# Altium schematic symbol library Virtex.SchLib: 67 symbols (part 1 of 2)
Pins are listed as number, name and electrical type; pins without a type are passive.

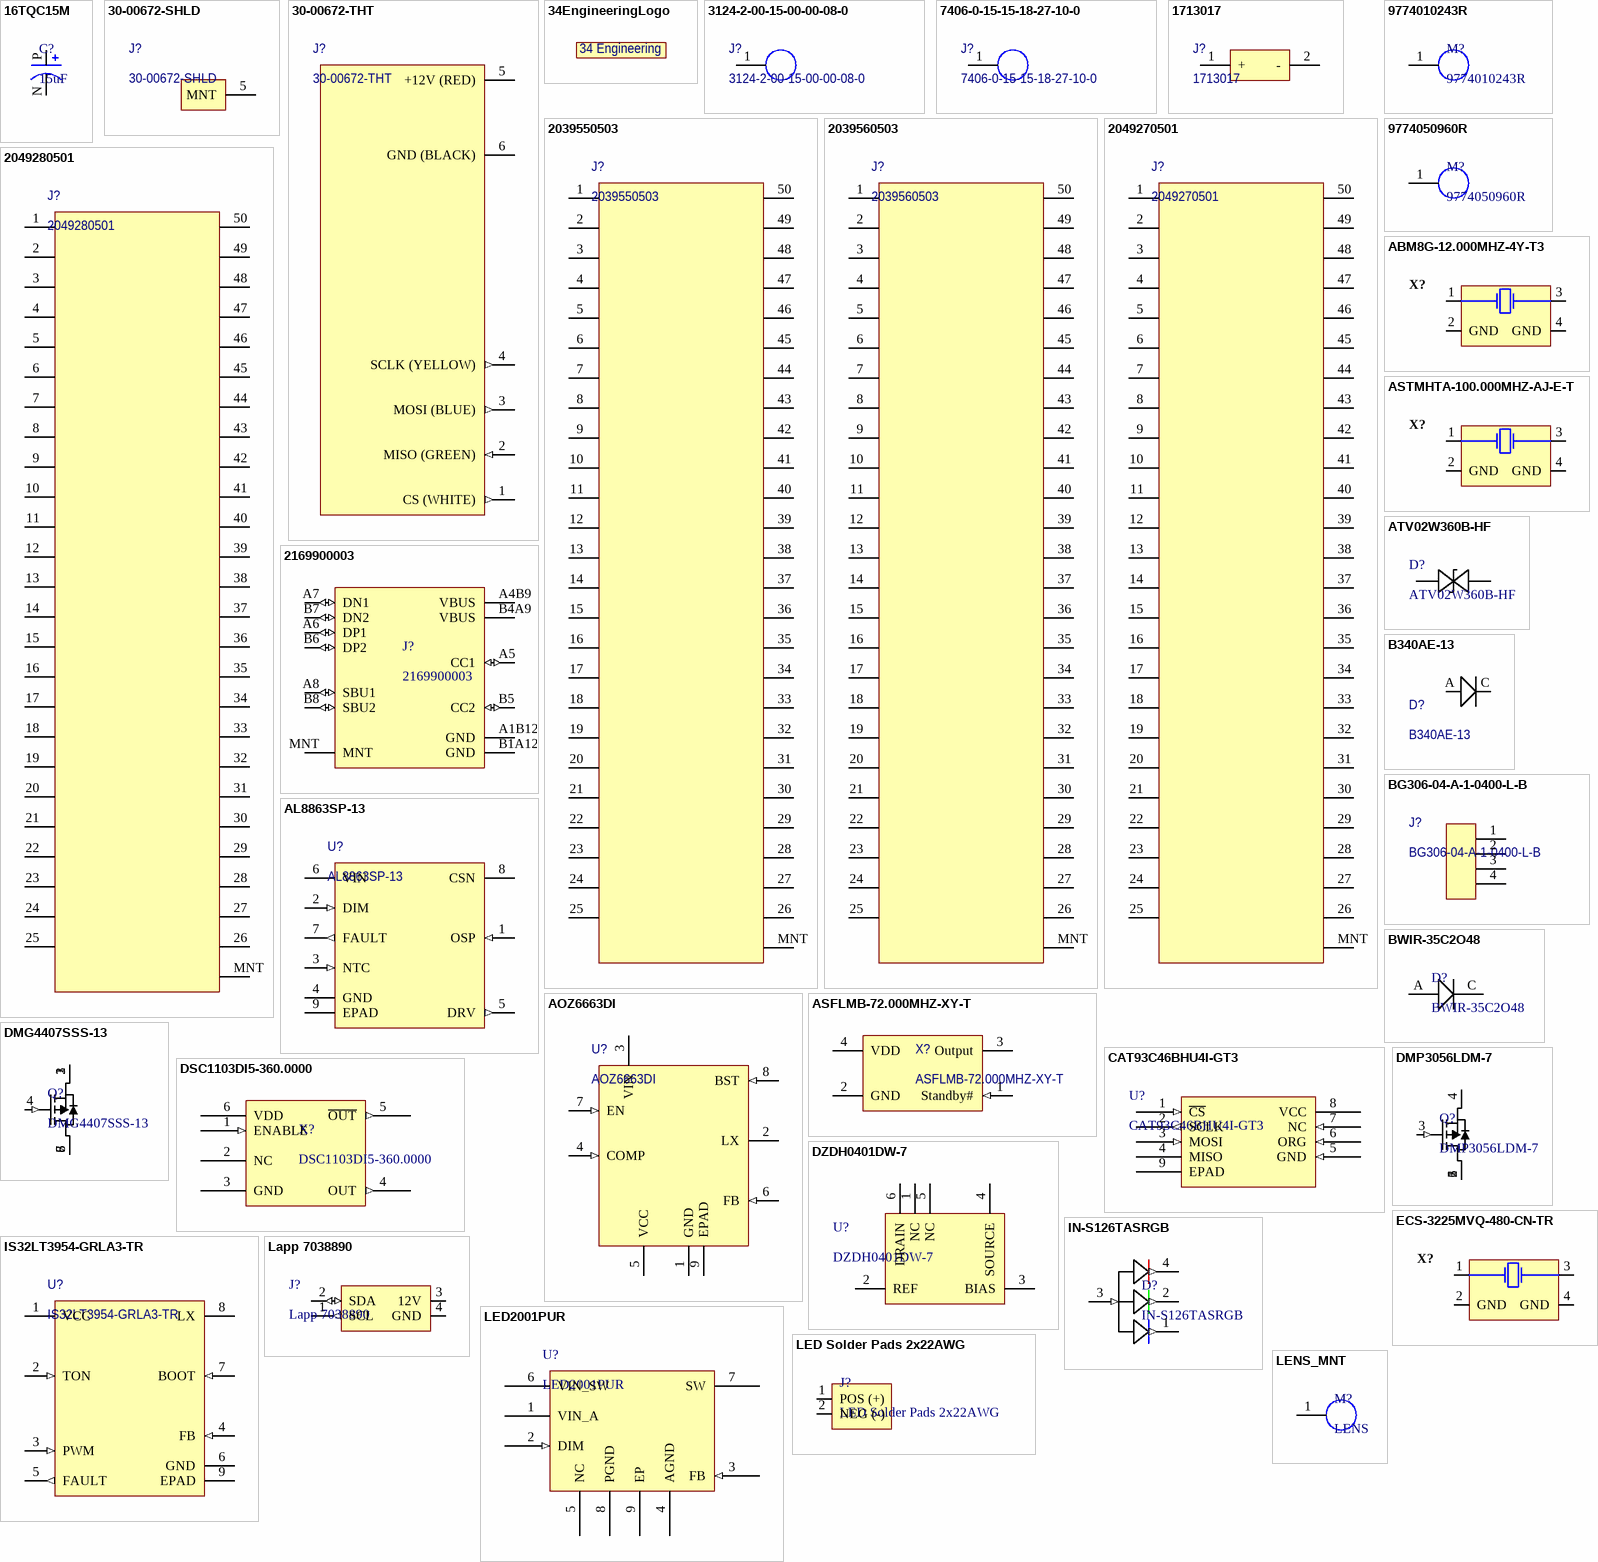
[diagram p0: symbols 16TQC15M to LENS_MNT]

## 16TQC15M
designator C?, comment 15uF
Polymer capacitor 15 uF 16 VDC, 16TQC15M, Panasonic Automotive & Industrial Systems; Tolerance: 20%; Voltage Rating: 16V; ESR (Equivalent Series Resistance): 90mR; Ripple Current: 1A; Leakage Current: 72uA; Polarity: Polar; Life (Hours): 2000Hour; Dissipation Factor: 10%; Supplier 1: Digi-Key; RoHS: Yes; Stock 1: 1294; Pricing 1: 1=2.02000, 10=1.59300, 50=1.38060, 100=1.19470, 500=0.90264, 1000=0.79646 (USD); Mount: Surface Mount; Case/Package: 1411; Number of Pins: 2; Case Code (Metric): 3528; Case Code (Imperial): 1411; Min Operating Temperature: -55°C; Max Operating Temperature: 105°C; Capacitance: 15uF; Package Quantity: 2000; Packaging: Tape and Reel; Voltage Rating (DC): 16V; Termination: SMD/SMT; Voltage: 16V; Features: General Purpose; Length: 3.5mm; Width: 0.11inch; Height: 1.9mm; Height - Seated (Max): 0.079inch; Depth: 2.8mm; Radiation Hardening: No; REACH SVHC: No SVHC; Lead Free: Lead Free; RoHS Compliant: Yes; ComponentLink1URL: https://datasheet.ciiva.com/25784/1734368-25784922.pdf?src-supplier=Farnell; ComponentLink1Description: https://datasheet.ciiva.com/25784/1734368-25784922.pdf?src-supplier=Farnell; ComponentLink2URL: https://datasheet.ciiva.com/48675/aaa8000ce14-48675000.pdf?src-supplier=Avnet; ComponentLink2Description: https://datasheet.ciiva.com/48675/aaa8000ce14-48675000.pdf?src-supplier=Avnet; ComponentLink3URL: https://datasheet.ciiva.com/48543/tqc-series-eng-tds-48543116.pdf?src-supplier=Distrelec; ComponentLink3Description: https://datasheet.ciiva.com/48543/tqc-series-eng-tds-48543116.pdf?src-supplier=Distrelec; Manufacturer Part Number: 16TQC15M; Manufacturer: Panasonic; Supplier Part Number 1: P16485CT-ND; Category: Tantalum Capacitors
footprint 16TQC15M
pins: N, P

## 30-00672-SHLD
designator J?
Multi-Conductor Cable Braid Thermoplastic Elastomer 6Conductors 28AWG 4.9mm 300V Black; Manufacturer: Tensility; Conductor Material: Copper; Number of Conductors: 6; Supplier 1: Digi-Key; Manufacturer Part Number: 30-00672; RoHS: No; Stock 1: 6; Pricing 1: 1=23.49000, 5=19.22200, 10=14.95100 (USD); Color: Black; Insulation Material: Polyurethane; Min Operating Temperature: -40°C; Max Operating Temperature: 80°C; Voltage: 300V; Wire/Cable Type: Multi-Conductor; Wire/Cable Gauge: 28AWG; ComponentLink1URL: http://www.tensility.com/pdffiles/30-00672.pdf?src-supplier=Digi-Key; ComponentLink1Description: http://www.tensility.com/pdffiles/30-00672.pdf?src-supplier=Digi-Key; Supplier Part Number 1: T1388-5-ND
footprint 30-00672-SHLD
pins: 5 MNT (power)

## 30-00672-THT
designator J?
Multi-Conductor Cable Braid Thermoplastic Elastomer 6Conductors 28AWG 4.9mm 300V Black; Manufacturer: Tensility; Conductor Material: Copper; Number of Conductors: 6; Supplier 1: Digi-Key; Manufacturer Part Number: 30-00672; RoHS: No; Stock 1: 6; Pricing 1: 1=23.49000, 5=19.22200, 10=14.95100 (USD); Color: Black; Insulation Material: Polyurethane; Min Operating Temperature: -40°C; Max Operating Temperature: 80°C; Voltage: 300V; Wire/Cable Type: Multi-Conductor; Wire/Cable Gauge: 28AWG; ComponentLink1URL: http://www.tensility.com/pdffiles/30-00672.pdf?src-supplier=Digi-Key; ComponentLink1Description: http://www.tensility.com/pdffiles/30-00672.pdf?src-supplier=Digi-Key; Supplier Part Number 1: T1388-5-ND
footprint 30-00672-THT
pins: 1 CS (WHITE) (out), 2 MISO (GREEN) (in), 3 MOSI (BLUE) (out), 4 SCLK (YELLOW) (out), 5 +12V (RED) (power), 6 GND (BLACK) (power)

## 34EngineeringLogo
designator S?
34 Engineering Silkscreen Logo
footprint 34EngineeringLogo
text: 34 Engineering

## 3124-2-00-15-00-00-08-0
designator J?
Circuit Board Hardware - PCB 10u AU OVER NI; Manufacturer: Mill-Max; Plating: Gold; Gender: Male; Insulation: Non-Insulated; Outside Diameter: 1.78mm; Flange Diameter: 0.07inch; Mounting Hole Diameter: 1.09mm; Board Thickness: 0.062inch; Hole Diameter: 0.043inch; Supplier 1: Arrow Electronics; Manufacturer Part Number: 3124-2-00-15-00-00-08-0; RoHS: Yes; Category: Connectors; Stock 1: 997; Pricing 1: 1=0.61030, 10=0.48810 (USD); Mount: Through Hole; Contact Material: Brass; Material: Brass; Contact Plating: Gold; Package Quantity: 500; Packaging: Bulk; Termination: PC Pin; Series: 3124; Length: 0.982inch; Lead Free: Contains Lead; RoHS Compliant: Yes; ComponentLink1URL: https://datasheet.ciiva.com/14895/679datasheet-cfmwebpartnumber3124bodylength2stagecode00shellplating1-14895464.pdf?src-supplier=Arrow+Electronics; ComponentLink1Description: https://datasheet.ciiva.com/14895/679datasheet-cfmwebpartnumber3124bodylength2stagecode00shellplating1-14895464.pdf?src-supplier=Arrow+Electronics; ComponentLink2URL: https://datasheet.ciiva.com/16306/3124-2-00-15-00-00-08-0-16306958.pdf?src-supplier=Future+Electronics; ComponentLink2Description: https://datasheet.ciiva.com/16306/3124-2-00-15-00-00-08-0-16306958.pdf?src-supplier=Future+Electronics; Supplier Part Number 1: 3124-2-00-15-00-00-08-0
footprint 3124-2-00-15-00-00-08-0 (Footprint not found)
pins: 1

## 7406-0-15-15-18-27-10-0
designator J?
3.05 mm PCB Through Hole Pin Receptacle for (0.94 to 1.09 mm Pin) w/ No Tail; Manufacturer: Mill-Max; Plating: Gold; Current Rating: 8A; Outside Diameter: 2.31mm; Hole Diameter: 1.8mm; Supplier 1: Arrow Electronics; Manufacturer Part Number: 7406-0-15-15-18-27-10-0; RoHS: Yes; Category: Terminals; Stock 1: 1000; Pricing 1: 1=0.49460, 10=0.42540 (USD); Mount: Through Hole; Material: BERYLLIUM COPPER ALLOY; Package Quantity: 500; Packaging: Bulk; Termination: Solder; Length: 0.12inch; Lead Free: Contains Lead; RoHS Compliant: Yes; ComponentLink1URL: https://datasheet.ciiva.com/12487/7406-0-15-15-18-27-10-0-72490-12487100.pdf?src-supplier=Mouser; ComponentLink1Description: https://datasheet.ciiva.com/12487/7406-0-15-15-18-27-10-0-72490-12487100.pdf?src-supplier=Mouser; Supplier Part Number 1: 7406-0-15-15-18-27-10-0
footprint 7406-0-15-15-18-27-10-0 (Footprint not found)
pins: 1

## 1713017
designator J?
PCB Terminal Push-In 3.5mm 16AWG 250V 8A 2 Position Combicon Compact Series; Manufacturer: Phoenix Contact; Number of Levels: 1; Number of Positions Per Level: 2; Current: 2A; Voltage: 300V; Wire Gauge (Max): 24AWG; Pitch: 0.138inch; Supplier 1: Arrow Electronics; Manufacturer Part Number: 1713017; RoHS: Yes; Category: Terminal Blocks; Stock 1: 1500; Pricing 1: 1=0.37150, 10=0.35410, 25=0.34670, 50=0.33270, 100=0.32070, 250=0.29670, 500=0.28610, 1000=0.28220 (USD); Mount: Through Hole; Weight: 0.038801oz; Color: Multiple; Package Quantity: 1; Packaging: Bulk; Current Rating: 8A; Voltage Rating: 250V; Termination: Screwless; Number of Positions: 2; Series: COMBICON PTSA; Length: 12mm; Height: 13.1mm; Wire Gauge (Min): 16AWG; Lead Free: Lead Free; RoHS Compliant: Yes; ComponentLink1URL: https://datasheet.ciiva.com/18620/1713017-18620870.pdf?src-supplier=Digi-Key; ComponentLink1Description: https://datasheet.ciiva.com/18620/1713017-18620870.pdf?src-supplier=Digi-Key; Supplier Part Number 1: 1713017
footprint 1713017 (Footprint not found)
pins: 1 + (power), 2 - (power)

## 2039550503
designator J?
SlimStack Board-to-Board Receptacle, 0.40mm Pitch, FSB5 Floating Series, 5.00mm Mated Height, 3.80mm Mated Width, 50 Circuits; Manufacturer: Molex; Manufacturer Part Number: 203955-0503; Supplier 1: Mouser; RoHS: No; Stock 1: 5216; Pricing 1: 1=2.91000, 10=2.57000, 50=2.69000, 100=2.04000, 1000=1.78000, 2200=1.72000, 8800=1.68000, 10000=1.58000 (USD); Supplier Part Number 1: 538-203956-0503
footprint 2039550503
pins: 1, 2, 3, 4, 5, 6, 7, 8, 9, 10, 11, 12, 13, 14, 15, 16, 17, 18, 19, 20, 21, 22, 23, 24, 25, 26, 27, 28, 29, 30, 31, 32, 33, 34, 35, 36, 37, 38, 39, 40, 41, 42, 43, 44, 45, 46, 47, 48, 49, 50, MNT

## 2039560503
designator J?
SlimStack Board-to-Board Plug, 0.40mm Pitch, FSB5 Floating Series, 5.00mm Mated Height, 3.80 Mated Width, 50 Circuits; Manufacturer: Molex; Manufacturer Part Number: 203956-0503; Supplier 1: Mouser; RoHS: No; Stock 1: 5216; Pricing 1: 1=2.91000, 10=2.57000, 50=2.69000, 100=2.04000, 1000=1.78000, 2200=1.72000, 8800=1.68000, 10000=1.58000 (USD); Supplier Part Number 1: 538-203956-0503
footprint 2039560503
pins: 1, 2, 3, 4, 5, 6, 7, 8, 9, 10, 11, 12, 13, 14, 15, 16, 17, 18, 19, 20, 21, 22, 23, 24, 25, 26, 27, 28, 29, 30, 31, 32, 33, 34, 35, 36, 37, 38, 39, 40, 41, 42, 43, 44, 45, 46, 47, 48, 49, 50, MNT

## 2049270501
designator J?
SlimStack Board-to-Board Receptacle, 0.40mm Pitch, FSB3 Floating Series, 3.00mm Mated Height, 3.20mm Mated Width, 50...; Manufacturer: Molex; Manufacturer Part Number: 203955-0503; RoHS: No; Stock 1: 8587; Pricing 1: 1=3.72000, 10=3.28000, 50=3.28000, 100=2.61000, 1000=2.16000, 10000=2.01000 (USD); Supplier 1: Mouser; Supplier Part Number 1: 538-204927-0501
footprint 2049270501
pins: 1, 2, 3, 4, 5, 6, 7, 8, 9, 10, 11, 12, 13, 14, 15, 16, 17, 18, 19, 20, 21, 22, 23, 24, 25, 26, 27, 28, 29, 30, 31, 32, 33, 34, 35, 36, 37, 38, 39, 40, 41, 42, 43, 44, 45, 46, 47, 48, 49, 50, MNT

## 2049280501
designator J?
SlimStack Board-to-Board Plug, 0.40mm Pitch, FSB3 Floating Series, 3.00mm Mated Height, 3.20 Mated Width, 50 Circuits; Manufacturer: Molex; Manufacturer Part Number: 203955-0503; RoHS: No; Stock 1: 8554; Pricing 1: 1=4.46000, 10=3.93000, 50=3.93000, 100=3.13000, 500=3.04000, 1000=2.59000, 3000=2.41000, 6000=2.32000, 9000=2.23000, 10000=2.41000 (USD); Supplier 1: Mouser; Supplier Part Number 1: 538-204928-0501
footprint 2049280501
pins: 1, 2, 3, 4, 5, 6, 7, 8, 9, 10, 11, 12, 13, 14, 15, 16, 17, 18, 19, 20, 21, 22, 23, 24, 25, 26, 27, 28, 29, 30, 31, 32, 33, 34, 35, 36, 37, 38, 39, 40, 41, 42, 43, 44, 45, 46, 47, 48, 49, 50, MNT

## 2169900003
designator J?
USB-C (USB TYPE-C) USB 2.0 Receptacle Connector 24 (16+8 Dummy) Position Surface Mount, Right Angle; Through Hole; MF: Molex; Purchase-URL: https://pricing.snapeda.com/search/part/2169900003/?ref=eda; Price: None; SnapEDA_Link: https://www.snapeda.com/parts/2169900003/Molex/view-part/?ref=snap; Check_prices: https://www.snapeda.com/parts/2169900003/Molex/view-part/?ref=eda; Package: None; Availability: In Stock; Value: *; MP: 2169900003; Supplier 1: Digi-Key; Manufacturer: Molex; Manufacturer Part Number: 2169900003; RoHS: No; Stock 1: 5473; Pricing 1: 1=0.85000, 10=0.70500, 100=0.58720 (USD); Supplier Part Number 1: 900-2169900003CT-ND
footprint 2169900003
pins: A1B12 GND (power), A4B9 VBUS (power), A5 CC1 (io), A6 DP1 (io), A7 DN1 (io), A8 SBU1 (io), B1A12 GND (power), B4A9 VBUS (power), B5 CC2 (io), B6 DP2 (io), B7 DN2 (io), B8 SBU2 (io), MNT

## 9774010243R
designator M?
Spacer Material: Steel, Tin-Plated Mounting: SMT Series: WA-SMST Thread D: M2; Manufacturer: Wurth Electronics; Manufacturer Part Number: 9774070960R; Plating: Tin; Threaded/Unthreaded: Unthreaded; Inside Diameter: 0.13inch; Outside Diameter: 0.236inch; RoHS: Yes; Category: Spacers, Standoffs; Stock 1: 946; Pricing 1: 1=1.24000, 10=1.18000, 25=1.11000, 50=1.05000, 100=0.95600 (USD); Material: Steel; Length: 0.33inch; REACH SVHC: Unknown; ComponentLink1URL: http://www.mouser.com/ds/2/445/9774070960R-611130.pdf?src-supplier=Mouser; ComponentLink1Description: http://www.mouser.com/ds/2/445/9774070960R-611130.pdf?src-supplier=Mouser; ComponentLink2URL: http://www.farnell.com/datasheets/1960400.pdf?src-supplier=Farnell; ComponentLink2Description: http://www.farnell.com/datasheets/1960400.pdf?src-supplier=Farnell; ComponentLink3URL: https://media.digikey.com/pdf/Data%20Sheets/Wurth%20Electronics%20PDFs/WA-SMSx_Performance_Flyer.pdf?src-supplier=Digi-Key; ComponentLink3Description: https://media.digikey.com/pdf/Data%20Sheets/Wurth%20Electronics%20PDFs/WA-SMSx_Performance_Flyer.pdf?src-supplier=Digi-Key; ComponentLink4URL: http://www.farnell.com/datasheets/1960400.pdf?src-supplier=Newark; ComponentLink4Description: http://www.farnell.com/datasheets/1960400.pdf?src-supplier=Newark; ComponentLink5URL: http://www.farnell.com/datasheets/1960400.pdf?src-supplier=Element14; ComponentLink5Description: http://www.farnell.com/datasheets/1960400.pdf?src-supplier=Element14; Stock 2: 1; Pricing 2: 650=0.83200, 1300=0.79000 (USD); ComponentLink6URL: http://www.mouser.com/ds/2/445/9774110960R-611133.pdf?src-supplier=Mouser; ComponentLink6Description: http://www.mouser.com/ds/2/445/9774110960R-611133.pdf?src-supplier=Mouser; ComponentLink7URL: http://www.farnell.com/datasheets/1960407.pdf?src-supplier=Farnell; ComponentLink7Description: http://www.farnell.com/datasheets/1960407.pdf?src-supplier=Farnell; ComponentLink8URL: http://www.farnell.com/datasheets/1960407.pdf?src-supplier=Element14; ComponentLink8Description: http://www.farnell.com/datasheets/1960407.pdf?src-supplier=Element14; ComponentLink9URL: http://www.farnell.com/datasheets/1960396.pdf?src-supplier=Farnell; ComponentLink9Description: http://www.farnell.com/datasheets/1960396.pdf?src-supplier=Farnell; ComponentLink10URL: http://www.mouser.com/ds/2/445/9774050960R-611117.pdf?src-supplier=Mouser; ComponentLink10Description: http://www.mouser.com/ds/2/445/9774050960R-611117.pdf?src-supplier=Mouser; ComponentLink11URL: http://www.farnell.com/datasheets/1960396.pdf?src-supplier=Element14; ComponentLink11Description: http://www.farnell.com/datasheets/1960396.pdf?src-supplier=Element14; ComponentLink12URL: http://www.farnell.com/datasheets/1960396.pdf?src-supplier=Newark; ComponentLink12Description: http://www.farnell.com/datasheets/1960396.pdf?src-supplier=Newark; Supplier 1: Newark; ComponentLink13URL: http://www.farnell.com/datasheets/1960359.pdf?src-supplier=Farnell; ComponentLink13Description: http://www.farnell.com/datasheets/1960359.pdf?src-supplier=Farnell; ComponentLink14URL: http://www.mouser.com/ds/2/445/9774010243R-611450.pdf?src-supplier=Mouser; ComponentLink14Description: http://www.mouser.com/ds/2/445/9774010243R-611450.pdf?src-supplier=Mouser; ComponentLink15URL: http://www.farnell.com/datasheets/1960359.pdf?src-supplier=Element14; ComponentLink15Description: http://www.farnell.com/datasheets/1960359.pdf?src-supplier=Element14; ComponentLink16URL: http://www.farnell.com/datasheets/1960359.pdf?src-supplier=Newark; ComponentLink16Description: http://www.farnell.com/datasheets/1960359.pdf?src-supplier=Newark; Supplier Part Number 1: 59Y8415
footprint 9774010243R
pins: 1

## 9774050960R
designator M?
Spacer Material: Steel Mounting: SMT Series: WA-SMST For ø: 3.3 mm; Manufacturer: Wurth Electronics; Manufacturer Part Number: 9774070960R; Plating: Tin; Threaded/Unthreaded: Unthreaded; Inside Diameter: 0.13inch; Outside Diameter: 0.236inch; RoHS: Yes; Category: Spacers, Standoffs; Stock 1: 8947; Pricing 1: 1=1.73000, 10=1.65800, 50=1.45600, 100=1.35500 (USD); Material: Steel; Length: 0.33inch; REACH SVHC: Unknown; ComponentLink1URL: http://www.mouser.com/ds/2/445/9774070960R-611130.pdf?src-supplier=Mouser; ComponentLink1Description: http://www.mouser.com/ds/2/445/9774070960R-611130.pdf?src-supplier=Mouser; ComponentLink2URL: http://www.farnell.com/datasheets/1960400.pdf?src-supplier=Farnell; ComponentLink2Description: http://www.farnell.com/datasheets/1960400.pdf?src-supplier=Farnell; ComponentLink3URL: https://media.digikey.com/pdf/Data%20Sheets/Wurth%20Electronics%20PDFs/WA-SMSx_Performance_Flyer.pdf?src-supplier=Digi-Key; ComponentLink3Description: https://media.digikey.com/pdf/Data%20Sheets/Wurth%20Electronics%20PDFs/WA-SMSx_Performance_Flyer.pdf?src-supplier=Digi-Key; ComponentLink4URL: http://www.farnell.com/datasheets/1960400.pdf?src-supplier=Newark; ComponentLink4Description: http://www.farnell.com/datasheets/1960400.pdf?src-supplier=Newark; ComponentLink5URL: http://www.farnell.com/datasheets/1960400.pdf?src-supplier=Element14; ComponentLink5Description: http://www.farnell.com/datasheets/1960400.pdf?src-supplier=Element14; Stock 2: 1; Pricing 2: 650=0.83200, 1300=0.79000 (USD); ComponentLink6URL: http://www.mouser.com/ds/2/445/9774110960R-611133.pdf?src-supplier=Mouser; ComponentLink6Description: http://www.mouser.com/ds/2/445/9774110960R-611133.pdf?src-supplier=Mouser; ComponentLink7URL: http://www.farnell.com/datasheets/1960407.pdf?src-supplier=Farnell; ComponentLink7Description: http://www.farnell.com/datasheets/1960407.pdf?src-supplier=Farnell; ComponentLink8URL: http://www.farnell.com/datasheets/1960407.pdf?src-supplier=Element14; ComponentLink8Description: http://www.farnell.com/datasheets/1960407.pdf?src-supplier=Element14; Supplier 1: Digi-Key; Supplier 2: RSComponents; ComponentLink9URL: http://www.farnell.com/datasheets/1960396.pdf?src-supplier=Farnell; ComponentLink9Description: http://www.farnell.com/datasheets/1960396.pdf?src-supplier=Farnell; ComponentLink10URL: http://www.mouser.com/ds/2/445/9774050960R-611117.pdf?src-supplier=Mouser; ComponentLink10Description: http://www.mouser.com/ds/2/445/9774050960R-611117.pdf?src-supplier=Mouser; ComponentLink11URL: http://www.farnell.com/datasheets/1960396.pdf?src-supplier=Element14; ComponentLink11Description: http://www.farnell.com/datasheets/1960396.pdf?src-supplier=Element14; ComponentLink12URL: http://www.farnell.com/datasheets/1960396.pdf?src-supplier=Newark; ComponentLink12Description: http://www.farnell.com/datasheets/1960396.pdf?src-supplier=Newark; Supplier Part Number 2: 1768017
footprint 9774050960R
pins: 1

## ABM8G-12.000MHZ-4Y-T3
designator X?  (value not drawn)
ABRACON - ABM8G-12.000MHZ-4Y-T3 - CRYSTAL, 12MHZ, 10PF, 3.2 X 2.5MM; ESR (Equivalent Series Resistance): 120R; Frequency Tolerance: 30ppm; Supplier 1: Digi-Key; RoHS: Yes; Stock 1: 11481; Pricing 1: 1=0.67000, 10=0.59600, 50=0.55720, 100=0.49250, 500=0.46656, 1000=0.38880 (USD); Mount: Surface Mount; Case/Package: CSMD; Number of Pins: 4; Min Operating Temperature: -10°C; Max Operating Temperature: 60°C; Frequency: 12MHz; Load Capacitance: 10pF; Packaging: Tape and Reel; Frequency Stability: 30ppm; Series: ABM8G; Series Resistance: 120R; Operating Frequency: 12 MHz; Length: 3.2mm; Width: 0.098inch; Height: 0.039inch; Depth: 2.5mm; REACH SVHC: No SVHC; Lead Free: Lead Free; ComponentLink1URL: https://datasheet.ciiva.com/15116/getdatasheetpartid-719872-15116768.pdf?src-supplier=Verical; ComponentLink1Description: https://datasheet.ciiva.com/15116/getdatasheetpartid-719872-15116768.pdf?src-supplier=Verical; ComponentLink2URL: https://datasheet.ciiva.com/857/abm8g-857959.pdf?src-supplier=Digi-Key; ComponentLink2Description: https://datasheet.ciiva.com/857/abm8g-857959.pdf?src-supplier=Digi-Key; ComponentLink3URL: https://datasheet.ciiva.com/857/abm8g-857960.pdf?src-supplier=Digi-Key; ComponentLink3Description: https://datasheet.ciiva.com/857/abm8g-857960.pdf?src-supplier=Digi-Key; ComponentLink4URL: https://datasheet.ciiva.com/857/abm8g-857961.pdf?src-supplier=Digi-Key; ComponentLink4Description: https://datasheet.ciiva.com/857/abm8g-857961.pdf?src-supplier=Digi-Key; ComponentLink5URL: https://datasheet.ciiva.com/16216/abm8g-16216655.pdf?src-supplier=Future+Electronics; ComponentLink5Description: https://datasheet.ciiva.com/16216/abm8g-16216655.pdf?src-supplier=Future+Electronics; Manufacturer Part Number: ABM8G-12.000MHZ-4Y-T3; Manufacturer: Abracon; Supplier Part Number 1: 535-10901-1-ND; Category: Crystals
footprint ABM8G-12.000MHZ-4Y-T3
pins: 1, 2 GND (power), 3, 4 GND (power)

## AL8863SP-13
designator U?
AL8863 Series 60 V 1 MHz Buck LED Controller with Fault Flag - SOIC-8EP; Manufacturer: Diodes; Supplier 1: Newark; Manufacturer Part Number: AL8863SP-13; RoHS: Yes; Category: LED Drivers; Stock 1: 2167; Pricing 1: 1=0.84000, 10=0.74100, 25=0.69400, 50=0.63100, 100=0.56700, 250=0.52600, 500=0.44800, 1000=0.35800 (USD); Supplier Part Number 1: 81AH8733
footprint AL8863SP-13 (Footprint not found)
pins: 1 OSP (in), 2 DIM (in), 3 NTC (in), 4 GND (power), 5 DRV (out), 6 VIN (power), 7 FAULT (out), 8 CSN (power), 9 EPAD (power)

## AOZ6663DI
designator U?
3A EZBuck with Internal Soft-Start / External Compensation, DFN3x3B-8L, RoHS; Manufacturer: Alpha & Omega Semiconductor; Supplier 1: Digi-Key; Manufacturer Part Number: AOZ6663DI; RoHS: Yes; Category: Voltage Regulators - Switching; Stock 1: 227772; Pricing 1: 1=0.61000, 10=0.52500, 25=0.48960, 100=0.39180, 250=0.36380, 500=0.30782, 1000=0.23786, 2500=0.21688 (USD); RoHS Compliant: Yes; Supplier Part Number 1: 785-1855-1-ND
footprint AOZ6663DI
pins: 1 GND (power), 2 LX (power), 3 VIN (power), 4 COMP (in), 5 VCC (power), 6 FB (in), 7 EN (in), 8 BST (in), 9 EPAD (power)

## ASFLMB-72.000MHZ-XY-T
designator X?
Silicon Oscillator 72MHz 15pF ±10ppm 4-Pin QFN T/R; Manufacturer: Abracon; Operating Supply Voltage: 3.6V; Max Supply Current: 16mA; Supplier 1: Mouser; Manufacturer Part Number: ASFLMB-72.000MHZ-XY-T; RoHS: Yes; Category: Oscillators; Stock 1: 318; Pricing 1: 1=3.61000, 10=3.45000, 50=3.27000, 100=2.93000, 500=2.76000, 1000=2.40000, 10000=2.40000 (USD); Mount: Surface Mount; Case/Package: SMD/SMT; Number of Pins: 4; Min Operating Temperature: -40°C; Max Operating Temperature: 105°C; Frequency: 72MHz; Load Capacitance: 15pF; Packaging: Tape and Reel; Frequency Stability: 10ppm; Termination: SMD/SMT; Series: Pure Silicon™ ASFLMB; Length: 0.197inch; Width: 0.126inch; Height: 0.035inch; Radiation Hardening: No; ComponentLink1URL: https://datasheet.ciiva.com/870/memspeedproflyerii-870042.pdf?src-supplier=Digi-Key; ComponentLink1Description: https://datasheet.ciiva.com/870/memspeedproflyerii-870042.pdf?src-supplier=Digi-Key; ComponentLink2URL: https://datasheet.ciiva.com/870/memspeedproflyerii-870043.pdf?src-supplier=Digi-Key; ComponentLink2Description: https://datasheet.ciiva.com/870/memspeedproflyerii-870043.pdf?src-supplier=Digi-Key; ComponentLink3URL: https://datasheet.ciiva.com/870/memspeedproflyerii-870044.pdf?src-supplier=Digi-Key; ComponentLink3Description: https://datasheet.ciiva.com/870/memspeedproflyerii-870044.pdf?src-supplier=Digi-Key; ComponentLink4URL: https://datasheet.ciiva.com/3178/asflmb-3178058.pdf?src-supplier=Avnet; ComponentLink4Description: https://datasheet.ciiva.com/3178/asflmb-3178058.pdf?src-supplier=Avnet; ComponentLink5URL: https://datasheet.ciiva.com/13163/asflmb-24525-13163049.pdf?src-supplier=Mouser; ComponentLink5Description: https://datasheet.ciiva.com/13163/asflmb-24525-13163049.pdf?src-supplier=Mouser; Supplier Part Number 1: 815-ASFLMB-72-XY-T
footprint ASFLMB-72.000MHZ-XY-T
pins: 1 Standby# (in), 2 GND (power), 3 Output (power), 4 VDD (power)

## ASTMHTA-100.000MHZ-AJ-E-T
designator X?, comment ASDMB-100.000MHZ-XY-T  (value not drawn)
MEMS OSC XO 100.0000MHZ LVCMOS; Manufacturer Part Number: ASTMHTA-100.000MHZ-AJ-E-T; Manufacturer: Abracon; Frequency: 100MHz; Load Capacitance: 15pF; Operating Supply Voltage: 3.6V; Frequency Stability: 10ppm; Max Supply Current: 16mA; RoHS: Yes; Stock 1: 2824; Pricing 1: 1=3.08000, 10=2.93800, 50=2.79080, 100=2.49700, 500=2.35008 (USD); Mount: Surface Mount; Case/Package: SMD/SMT; Number of Pins: 4; Min Operating Temperature: -40°C; Max Operating Temperature: 105°C; Packaging: Tape and Reel; Termination: SMD/SMT; Series: Pure Silicon™ ASDMB; Length: 0.098inch; Width: 0.079inch; Height: 0.035inch; Radiation Hardening: No; RoHS Compliant: Yes; Lead Free: Lead Free; ComponentLink1URL: https://datasheet.ciiva.com/1389/1750124-1389392.pdf?src-supplier=Newark; ComponentLink1Description: https://datasheet.ciiva.com/1389/1750124-1389392.pdf?src-supplier=Newark; ComponentLink2URL: https://datasheet.ciiva.com/866/asdmb-866812.pdf?src-supplier=Digi-Key; ComponentLink2Description: https://datasheet.ciiva.com/866/asdmb-866812.pdf?src-supplier=Digi-Key; ComponentLink3URL: https://datasheet.ciiva.com/866/asdmb-866813.pdf?src-supplier=Digi-Key; ComponentLink3Description: https://datasheet.ciiva.com/866/asdmb-866813.pdf?src-supplier=Digi-Key; ComponentLink4URL: https://datasheet.ciiva.com/866/asdmb-866814.pdf?src-supplier=Digi-Key; ComponentLink4Description: https://datasheet.ciiva.com/866/asdmb-866814.pdf?src-supplier=Digi-Key; ComponentLink5URL: https://datasheet.ciiva.com/3177/asdmb-3177639.pdf?src-supplier=Avnet; ComponentLink5Description: https://datasheet.ciiva.com/3177/asdmb-3177639.pdf?src-supplier=Avnet; Category: Oscillators; Supplier 1: Digi-Key; Supplier Part Number 1: 535-15297-1-ND
footprint ASTMHTA-100.000MHZ-AJ-E-T
pins: 1, 2 GND (power), 3, 4 GND (power)

## ATV02W360B-HF
designator D?
No Description Available; Mfr_Name: Comchip; Type: DEV; Copyright: Copyright (C) 2022 Ultra Librarian. All rights reserved.; Manufacturer_Part_Number: ATV02W360B-HF; RefDes: RefDes
footprint ATV02W
pins: 1, 2

## B340AE-13
designator D?
Rectifier Diode Schottky 40V 3A 2-Pin SMA T/R; Manufacturer: Diodes; Average Rectified Current: 2A; Supplier 1: Newark; Manufacturer Part Number: B340AE-13; RoHS: Yes; Category: Rectifier Diodes; Stock 1: 4255; Pricing 1: 1=0.56000, 5=0.56000, 10=0.46300, 25=0.41400, 50=0.36500, 100=0.31600, 250=0.27700, 500=0.23700, 1000=0.17800 (USD); Mount: Surface Mount; Case/Package: SMA; Packaging: Tape and Reel; Max Reverse Voltage (DC): 40V; RoHS Compliant: Yes; ComponentLink1URL: https://www.diodes.com/assets/Datasheets/B320AE-B345AE.pdf?src-supplier=Digi-Key; ComponentLink1Description: https://www.diodes.com/assets/Datasheets/B320AE-B345AE.pdf?src-supplier=Digi-Key; Supplier Part Number 1: 07AH3680
footprint B340AE-13 (Molded Diode, 2-Leads, Body 4.30x2.61mm, IPC Medium Density)
pins: A (power), C (power)

## BG306-04-A-1-0400-L-B
designator J?
CONNECTOR, SOCKET, 4 POSITION, 1 ROW, 2.54MM; Product Range:White Lite BG306 Series; Contact Termination Type:Surface Mount; Gender:Receptacle; No. of Contacts:4; Pitch Spacing:2.54mm; Contact Plating:Gold Plated Contacts ;RoHS Compliant: Yes; Manufacturer: Global Connector Technology; Number of Positions: 4; Supplier 1: Newark; Manufacturer Part Number: BG306-04-A-1-0400-L-B; RoHS: Yes; Category: Connectors; Stock 1: 456; Pricing 1: 10=1.15000, 100=0.90500, 250=0.82600, 500=0.75400, 1000=0.70200 (USD); Mount: Surface Mount; Contact Plating: Gold; Contact Material: Bronze; Number of Rows: 1; Termination: SMD/SMT; Gender: Receptacle; Number of Contacts: 4; Series: BG306; Pitch: 2.54mm; REACH SVHC: No SVHC; Lead Free: Lead Free; RoHS Compliant: Yes; ComponentLink1URL: https://datasheet.ciiva.com/16287/bg306-16287424.pdf?src-supplier=Future+Electronics; ComponentLink1Description: https://datasheet.ciiva.com/16287/bg306-16287424.pdf?src-supplier=Future+Electronics; ComponentLink2URL: https://datasheet.ciiva.com/46431/1841849-46431774.pdf?src-supplier=Element14; ComponentLink2Description: https://datasheet.ciiva.com/46431/1841849-46431774.pdf?src-supplier=Element14; Supplier Part Number 1: 24AC7654
footprint BG306-04-A-1-0400-L-B
pins: 1, 2, 3, 4

## BWIR-35C2O48
designator D?
Infrared (IR) Emitter 850nm 1.7V 1A 260mW/sr @ 1A (Typ) 120° 1414 (3535 Metric); Manufacturer: American Bright; Supplier 1: Digi-Key; Manufacturer Part Number: BWIR-35C2O48; RoHS: No; Stock 1: 22417; Pricing 1: 1=2.11000, 10=1.40800, 100=1.08350, 500=0.97944, 1000=0.86625 (USD); Packaging: Tape and Reel; Supplier Part Number 1: BWIR-35C2O48CT-ND
footprint BWIR-35C2O48
pins: A (power), C (power)

## CAT93C46BHU4I-GT3
designator U?
EEPROM Memory IC 1Kb (128 x 8, 64 x 16) SPI 4 MHz 8-UDFN-EP (2x3); ComponentLink1URL: http://www.onsemi.com/pub_link/Collateral/CAT93C46B-D.PDF?src-supplier=Avnet; ComponentLink1Description: http://www.onsemi.com/pub_link/Collateral/CAT93C46B-D.PDF?src-supplier=Avnet; ComponentLink2URL: http://www.onsemi.com/pub/Collateral/CAT93C46B-D.PDF?src-supplier=Digi-Key; ComponentLink2Description: http://www.onsemi.com/pub/Collateral/CAT93C46B-D.PDF?src-supplier=Digi-Key; Supplier 1: Arrow Electronics; Supplier Part Number 1: CAT93C46BHU4I-GT3
footprint CAT93C46BHU4I-GT3
pins: 1 ~{CS} (in), 2 SCLK (out), 3 MOSI (in), 4 MISO (power), 5 GND (in), 6 ORG (in), 7 NC (in), 8 VCC (power), 9 EPAD (power)

## DMG4407SSS-13
designator Q?
No Description Available; Mfr_Name: Diodes Inc; Type: DEV; Copyright: Copyright (C) 2022 Ultra Librarian. All rights reserved.; Manufacturer_Part_Number: DMG4407SSS-13; RefDes: RefDes
footprint SO8_DIO
pins: 1 (power), 2 (power), 3 (power), 4 (in), 5 (power), 6 (power), 7 (power), 8 (power)

## DMP3056LDM-7
designator Q?
Trans Mosfet P-ch 30V 4.3A 6-PIN SOT-26 T/r / Mosfet P-ch 30V 4.3A SOT-26; Mfr_Name: Diodes Inc; Manufacturer_Part_Number: DMG4407SSS-13; Manufacturer: Diodes; Type: DEV; Rise Time: 6.6ns; Fall Time: 22.3ns; Turn-Off Delay Time: 50.1ns; Turn-On Delay Time: 10.2ns; Gate to Source Voltage (Vgs): 10V; Rds On Max: 45mR; Input Capacitance: 948pF; Number of Elements: 1; Max Power Dissipation: 1.5W; Drain to Source Breakdown Voltage: -30V; Element Configuration: Single; Polarity: P-CHANNEL; Copyright: Copyright (C) 2022 Ultra Librarian. All rights reserved.; RefDes: RefDes; Supplier 1: Arrow Electronics; Manufacturer Part Number: DMP3056LDM-7; RoHS: Yes; Category: MOSFETs; Stock 1: 366; Pricing 1: 1=0.31620, 10=0.31310, 25=0.30990, 100=0.23530, 250=0.23300, 500=0.20610, 1000=0.19360, 3000=0.17330 (USD); Mount: Surface Mount; Case/Package: SOT-26-6; Number of Pins: 6; Weight: 0.000529oz; Min Operating Temperature: -55°C; Max Operating Temperature: 150°C; Continuous Drain Current (ID): 4.3A; Package Quantity: 3000; Packaging: Cut Tape; Drain to Source Voltage (Vdss): 30V; Power Dissipation: 1.5W; Drain to Source Resistance: 45mR; Number of Channels: 1; Series: DMP3056; Length: 3mm; Width: 1.6mm; Height: 1.1mm; Radiation Hardening: No; REACH SVHC: No SVHC; Lead Free: Lead Free; RoHS Compliant: Yes; ComponentLink1URL: https://datasheet.ciiva.com/935/ds31449-935056.pdf?src-supplier=Digi-Key; ComponentLink1Description: https://datasheet.ciiva.com/935/ds31449-935056.pdf?src-supplier=Digi-Key; ComponentLink2URL: https://datasheet.ciiva.com/935/ds31449-935055.pdf?src-supplier=Digi-Key; ComponentLink2Description: https://datasheet.ciiva.com/935/ds31449-935055.pdf?src-supplier=Digi-Key; ComponentLink3URL: https://datasheet.ciiva.com/935/ds31449-935057.pdf?src-supplier=Digi-Key; ComponentLink3Description: https://datasheet.ciiva.com/935/ds31449-935057.pdf?src-supplier=Digi-Key; ComponentLink4URL: https://datasheet.ciiva.com/11176/ds31449-11176470.pdf?src-supplier=Avnet; ComponentLink4Description: https://datasheet.ciiva.com/11176/ds31449-11176470.pdf?src-supplier=Avnet; ComponentLink5URL: https://datasheet.ciiva.com/8115/ds31449-8115483.pdf?src-supplier=Avnet; ComponentLink5Description: https://datasheet.ciiva.com/8115/ds31449-8115483.pdf?src-supplier=Avnet; Supplier Part Number 1: DMP3056LDM-7
footprint SOT95P285X130-6N (SOT23, 6-Leads, Body 3.00x2.85mm, Pitch 0.95mm, IPC Medium Density)
pins: 1 (power), 2 (power), 3 (in), 4 (power), 5 (power), 6 (power)

## DSC1103DI5-360.0000
designator X?
Mems Oscillator, Low Power, Lvds, -40C-85C, 10Ppm, 2.5X2.0Mm6 Vdfn 2.0X2.5Mm Tube; Manufacturer: Microchip; Supplier 1: Digi-Key; Manufacturer Part Number: DSC1103DI5-360.0000; RoHS: Yes; Category: Oscillators; Stock 1: 706; Pricing 1: 1=5.51000, 25=4.59000, 100=4.51500 (USD); RoHS Compliant: Yes; Supplier Part Number 1: DSC1103DI5-360.0000-ND
footprint DSC1103DI5-360.0000
pins: 1 ENABLE (in), 2 NC, 3 GND (power), 4 OUT (out), 5 ~{OUT} (out), 6 VDD (power)

## DZDH0401DW-7
designator U?
Ideal Diode Controller 40V 300mA 300mW 6-Pin SOT-363 T/R; Mfr_Name: Diodes Inc; Manufacturer: Diodes; Copyright: Copyright (C) 2022 Ultra Librarian. All rights reserved.; Manufacturer_Part_Number: DZDH0401DW-7; RefDes: RefDes; Type: DEV; Supplier 1: Mouser; Manufacturer Part Number: DZDH0401DW-7; RoHS: Yes; Stock 1: 1625; Pricing 1: 1=0.43000, 10=0.32400, 50=0.32400, 100=0.17000, 500=0.13800, 1000=0.10600, 3000=0.09000, 10000=0.09000 (USD); Supplier Part Number 1: 621-DZDH0401DW-7
footprint DZDH0401DW-7
pins: 1 NC, 2 REF, 3 BIAS, 4 SOURCE, 5 NC, 6 DRAIN

## ECS-3225MVQ-480-CN-TR
designator X?  (value not drawn)
48 MHz XO (Standard) HCMOS Oscillator 1.7V ~ 3.63V Enable/Disable 4-SMD, No Lead; Manufacturer Part Number: ABM8G-12.000MHZ-4Y-T3; Manufacturer: Abracon; ESR (Equivalent Series Resistance): 120R; Frequency: 12MHz; Load Capacitance: 10pF; Frequency Tolerance: 30ppm; Operating Frequency: 12 MHz; RoHS: Yes; Stock 1: 11481; Pricing 1: 1=0.67000, 10=0.59600, 50=0.55720, 100=0.49250, 500=0.46656, 1000=0.38880 (USD); Mount: Surface Mount; Case/Package: CSMD; Number of Pins: 4; Min Operating Temperature: -10°C; Max Operating Temperature: 60°C; Packaging: Tape and Reel; Frequency Stability: 30ppm; Series: ABM8G; Series Resistance: 120R; Length: 3.2mm; Width: 0.098inch; Height: 0.039inch; Depth: 2.5mm; REACH SVHC: No SVHC; Lead Free: Lead Free; ComponentLink1URL: https://datasheet.ciiva.com/15116/getdatasheetpartid-719872-15116768.pdf?src-supplier=Verical; ComponentLink1Description: https://datasheet.ciiva.com/15116/getdatasheetpartid-719872-15116768.pdf?src-supplier=Verical; ComponentLink2URL: https://datasheet.ciiva.com/857/abm8g-857959.pdf?src-supplier=Digi-Key; ComponentLink2Description: https://datasheet.ciiva.com/857/abm8g-857959.pdf?src-supplier=Digi-Key; ComponentLink3URL: https://datasheet.ciiva.com/857/abm8g-857960.pdf?src-supplier=Digi-Key; ComponentLink3Description: https://datasheet.ciiva.com/857/abm8g-857960.pdf?src-supplier=Digi-Key; ComponentLink4URL: https://datasheet.ciiva.com/857/abm8g-857961.pdf?src-supplier=Digi-Key; ComponentLink4Description: https://datasheet.ciiva.com/857/abm8g-857961.pdf?src-supplier=Digi-Key; ComponentLink5URL: https://datasheet.ciiva.com/16216/abm8g-16216655.pdf?src-supplier=Future+Electronics; ComponentLink5Description: https://datasheet.ciiva.com/16216/abm8g-16216655.pdf?src-supplier=Future+Electronics; Category: Crystals; Supplier 1: Digi-Key; Supplier Part Number 1: 50-ECS-3225MVQ-480-CN-CT-ND
footprint ECS-3225MVQ-480-CN-TR
pins: 1, 2 GND (power), 3, 4 GND (power)

## IN-S126TASRGB
designator D?
LED Tri-Color Blue/Green/Red 470nm/523nm/625nm Automotive 4-Pin Chip 1206(3216Metric) T/R; Manufacturer: Inolux; Supplier 1: Digi-Key; Manufacturer Part Number: IN-S126TASRGB; RoHS: No; Category: LEDs; Stock 1: 49322; Pricing 1: 1=0.58000, 10=0.37900, 100=0.25070, 1000=0.19356 (USD); Supplier Part Number 1: 1830-1052-1-ND
footprint IN-S126TASRGB
pins: 1 (out), 2 (out), 3 (in), 4 (out)

## IS32LT3954-GRLA3-TR
designator U?
3.0A Dimmable Buck Switching Regulator with Fault Reporting, Spread Spectrum, SOP-8-EP; Manufacturer: ISSI; Supplier 1: Digi-Key; Manufacturer Part Number: IS32LT3954-GRLA3-TR; RoHS: Yes; Stock 1: 27850; Pricing 1: 1=1.94000, 10=1.74200, 25=1.64320, 100=1.39980, 250=1.31440, 500=1.15010, 1000=0.95294 (USD); RoHS Compliant: Yes; Supplier Part Number 1: 2521-IS32LT3954-GRLA3-TRCT-ND
footprint IS32LT3954-GRLA3-TR (SOIC, 8-Leads, Body 4.90x3.90mm, Pitch 1.27mm, Thermal Pad 3.41x2.71mm, IPC Medium Density)
pins: 1 VCC (power), 2 TON (in), 3 PWM (in), 4 FB (in), 5 FAULT (out), 6 GND (power), 7 BOOT (in), 8 LX (power), 9 EPAD (power)

## Lapp 7038890
designator J?
footprint Lapp 7038890
pins: 1 SCL (out), 2 SDA (io), 3 12V (power), 4 GND (power)

## LED2001PUR
designator U?
LED DRVR 3Segment 3.3V/5V/9V/12V/15V Automotive 8-Pin VFQFPN EP T/R; Manufacturer: STMicroelectronics; Min Input Voltage: 3V; Max Input Voltage: 18V; Switching Frequency: 850kHz; Max Output Voltage: -1V; Max Output Current: 4A; Number of Outputs: 1; Power Dissipation: 2W; Max Supply Current: 2.5mA; Number of Segments: 3; Dimming: PWM; Max Duty Cycle: 100%; Output Type: Adjustable; Supplier 1: Digi-Key; Manufacturer Part Number: LED2001PUR; RoHS: Yes; Category: LED Drivers; Stock 1: 3002; Pricing 1: 1=2.72000, 10=2.44200, 25=2.30400, 100=1.96290, 250=1.84312, 500=1.61274, 1000=1.52145 (USD); Mount: Surface Mount; Case/Package: VQFN; Number of Pins: 8; Min Operating Temperature: -40°C; Max Operating Temperature: 150°C; Min Output Voltage: 18V; Output Current: 4A; Frequency: 850kHz; Max Supply Voltage: 18V; Min Supply Voltage: 3V; Packaging: Tape and Reel; Package Quantity: 1; Output Current per Channel: 4A; Quiescent Current: 2.5mA; Length: 4.1mm; Width: 4.1mm; Height: 0.95mm; REACH SVHC: No SVHC; Lead Free: Lead Free; RoHS Compliant: Yes; ComponentLink1URL: https://datasheet.ciiva.com/41458/001184945-da-01-en-ic-reg-buck-4a-mon-led2001pur-vqfn-8-stm-41458060.pdf?src-supplier=Conrad; ComponentLink1Description: https://datasheet.ciiva.com/41458/001184945-da-01-en-ic-reg-buck-4a-mon-led2001pur-vqfn-8-stm-41458060.pdf?src-supplier=Conrad; ComponentLink2URL: https://datasheet.ciiva.com/18569/dm00079085-18569110.pdf?src-supplier=Digi-Key; ComponentLink2Description: https://datasheet.ciiva.com/18569/dm00079085-18569110.pdf?src-supplier=Digi-Key; ComponentLink3URL: https://datasheet.ciiva.com/18569/dm00079085-18569111.pdf?src-supplier=Digi-Key; ComponentLink3Description: https://datasheet.ciiva.com/18569/dm00079085-18569111.pdf?src-supplier=Digi-Key; ComponentLink4URL: https://datasheet.ciiva.com/18569/dm00079085-18569112.pdf?src-supplier=Digi-Key; ComponentLink4Description: https://datasheet.ciiva.com/18569/dm00079085-18569112.pdf?src-supplier=Digi-Key; Supplier Part Number 1: 497-13853-1-ND
pins: 1 VIN_A (power), 2 DIM (in), 3 FB (in), 4 AGND (power), 5 NC (oc), 6 VIN_SW (power), 7 SW (power), 8 PGND (power), 9 EP (power)

## LED Solder Pads 2x22AWG
designator J?
Two solder pads for 22 gauge wire
footprint LED Solder Pads 2x22AWG
pins: 1 POS (+) (power), 2 NEG (-) (power)

## LENS_MNT
designator M?, comment LENS
Virtex Python 300 Lens Mount 34V0-LN-MNT
footprint LENS_MNT
pins: 1

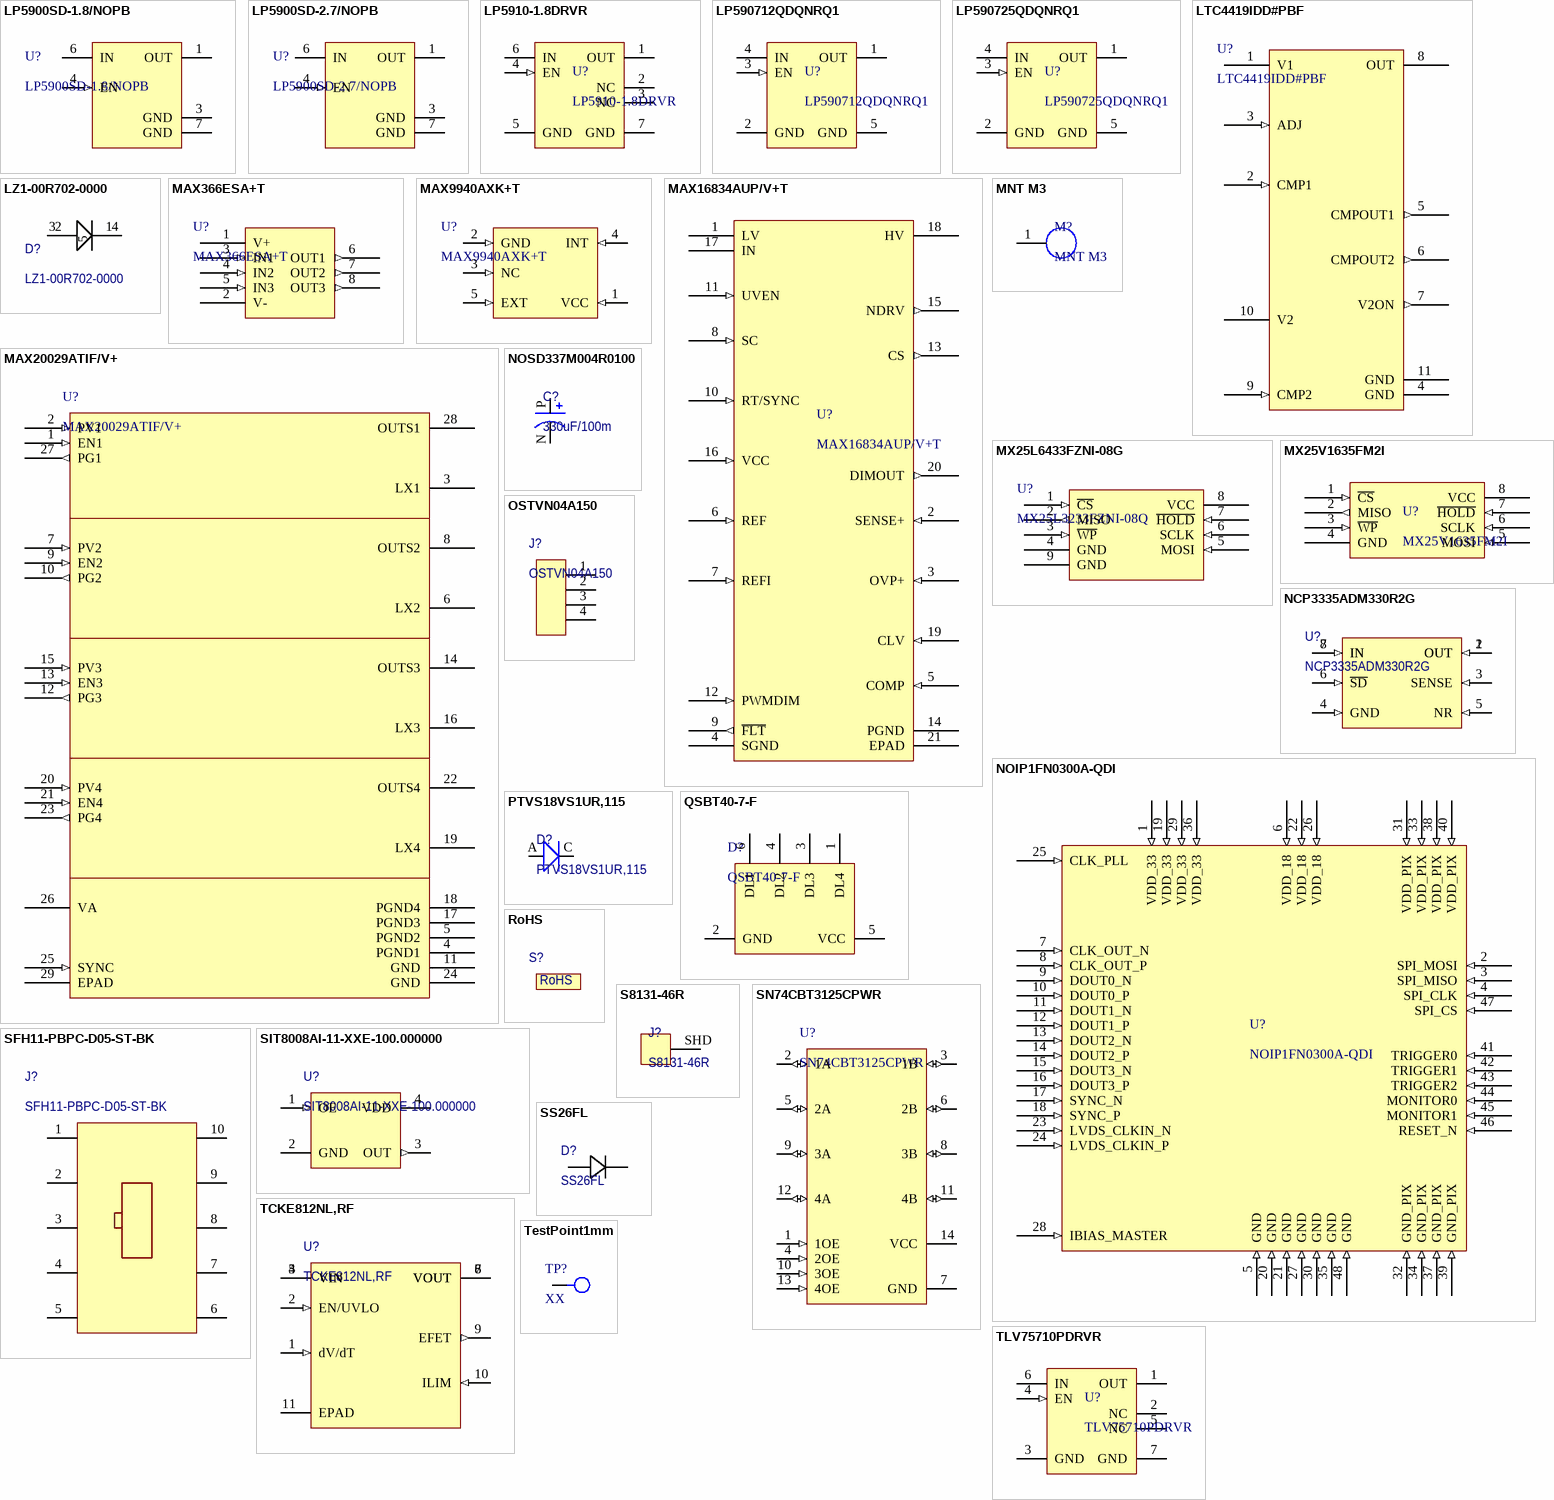
[diagram p1: symbols LP5900SD-1.8/NOPB to TLV75710PDRVR]

## LP5900SD-1.8/NOPB
designator U?
TEXAS INSTRUMENTS         LP5900SD-1.8/NOPB.             LDO VOLTAGE REGULATOR, 3.3V, 150mA, LLP-6, FULL REEL; Output Voltage: 1.8V; Min Input Voltage: 2.5V; Max Input Voltage: 5.5V; Number of Outputs: 1; Polarity: Positive; Quiescent Current: 50uA; Accuracy: 2%; Output Type: Fixed; Dropout Voltage: 150mV; Supplier 1: Digi-Key; RoHS: Yes; Stock 1: 9836; Pricing 1: 1=0.87000, 10=0.77000, 25=0.72280, 100=0.59000, 250=0.54800, 500=0.46640 (USD); Mount: Surface Mount; Number of Pins: 6; Min Operating Temperature: -40°C; Max Operating Temperature: 125°C; Output Current: 150mA; Package Quantity: 1000; Max Output Current: 150mA; Nominal Output Voltage: 1.8V; Packaging: Tape and Reel; Output Voltage Accuracy: 2%; Length: 2.2mm; Width: 2.5mm; Height: 0.8mm; Radiation Hardening: No; REACH SVHC: No SVHC; Lead Free: Lead Free; RoHS Compliant: Yes; ComponentLink1URL: https://datasheet.ciiva.com/6598/lp5900-6598182.pdf?src-supplier=Digi-Key; ComponentLink1Description: https://datasheet.ciiva.com/6598/lp5900-6598182.pdf?src-supplier=Digi-Key; ComponentLink2URL: https://datasheet.ciiva.com/6598/lp5900-6598185.pdf?src-supplier=Digi-Key; ComponentLink2Description: https://datasheet.ciiva.com/6598/lp5900-6598185.pdf?src-supplier=Digi-Key; ComponentLink3URL: https://datasheet.ciiva.com/6598/lp5900-6598187.pdf?src-supplier=Digi-Key; ComponentLink3Description: https://datasheet.ciiva.com/6598/lp5900-6598187.pdf?src-supplier=Digi-Key; ComponentLink4URL: https://datasheet.ciiva.com/26175/lp5900-26175289.pdf?src-supplier=Avnet+Europe; ComponentLink4Description: https://datasheet.ciiva.com/26175/lp5900-26175289.pdf?src-supplier=Avnet+Europe; ComponentLink5URL: https://datasheet.ciiva.com/14278/lp5900-14278125.pdf?src-supplier=Avnet; ComponentLink5Description: https://datasheet.ciiva.com/14278/lp5900-14278125.pdf?src-supplier=Avnet; ComponentLink6URL: https://datasheet.ciiva.com/28643/1772310-28643116.pdf?src-supplier=Element14; ComponentLink6Description: https://datasheet.ciiva.com/28643/1772310-28643116.pdf?src-supplier=Element14; ComponentLink7URL: https://datasheet.ciiva.com/22678/1772310-22678013.pdf?src-supplier=Element14; ComponentLink7Description: https://datasheet.ciiva.com/22678/1772310-22678013.pdf?src-supplier=Element14; Category: Voltage Regulators - Linear; Manufacturer Part Number: LP5900SD-1.8/NOPB; Manufacturer: Texas Instruments; Supplier Part Number 1: LP5900SD-1.8/NOPBCT-ND
footprint LP5900-WSON
pins: 1 OUT (power), 3 GND (power), 4 EN (in), 6 IN (power), 7 GND (power)

## LP5900SD-2.7/NOPB
designator U?
LDO Regulator Pos 2.7V 0.15A 6-Pin WSON EP T/R; Manufacturer: TI National Semiconductor; Output Current: 150mA; Number of Outputs: 1; Min Input Voltage: 2.5V; Max Input Voltage: 5.5V; Polarity: Positive; Quiescent Current: 50uA; Accuracy: 2%; Output Type: Fixed; Dropout Voltage: 80mV; Supplier 1: Digi-Key; RoHS: Yes; Stock 1: 2483; Pricing 1: 1=0.87000, 10=0.77000, 25=0.72280, 100=0.59000, 250=0.54800, 500=0.46640 (USD); Mount: Surface Mount; Number of Pins: 6; Min Operating Temperature: -40°C; Max Operating Temperature: 125°C; Output Voltage: 2.7V; Package Quantity: 1000; Max Output Current: 150mA; Packaging: Tape and Reel; Number of Regulators: 1; Output Voltage Accuracy: 2%; Radiation Hardening: No; Lead Free: Lead Free; RoHS Compliant: Yes; ComponentLink1URL: https://datasheet.ciiva.com/6598/lp5900-6598117.pdf?src-supplier=Digi-Key; ComponentLink1Description: https://datasheet.ciiva.com/6598/lp5900-6598117.pdf?src-supplier=Digi-Key; Category: Voltage Regulators - Linear; Manufacturer Part Number: LP5900SD-2.7/NOPB; Supplier Part Number 1: LP5900SD-2.7/NOPBCT-ND
footprint LP5900-WSON
pins: 1 OUT (power), 3 GND (power), 4 EN (in), 6 IN (power), 7 GND (power)

## LP5910-1.8DRVR
designator U?
IC REG LINEAR 1.8V 300MA 6SON; Manufacturer: Texas Instruments; Dropout Voltage: 145mV; Number of Regulators: 1; Quiescent Current: 12uA; Supplier 1: Digi-Key; RoHS: Yes; Stock 1: 556; Pricing 1: 1=0.63000, 10=0.53700, 25=0.50080, 100=0.40070, 250=0.37208, 500=0.31482, 1000=0.24327 (USD); Mount: Surface Mount; Min Operating Temperature: -40°C; Max Operating Temperature: 125°C; Packaging: Tape and Reel; Output Voltage: 1.8V; Output Current: 300mA; Lead Free: Lead Free; RoHS Compliant: Yes; ComponentLink1URL: http://www.ti.com/general/docs/suppproductinfo.tsp?distId=10&amp;gotoUrl=http%3A%2F%2Fwww.ti.com%2Flit%2Fgpn%2Flp5910&src-supplier=Digi-Key; ComponentLink1Description: http://www.ti.com/general/docs/suppproductinfo.tsp?distId=10&amp;gotoUrl=http%3A%2F%2Fwww.ti.com%2Flit%2Fgpn%2Flp5910&src-supplier=Digi-Key; ComponentLink2URL: http://www.ti.com/lit/ds/symlink/lp5910.pdf?src-supplier=Digi-Key; ComponentLink2Description: http://www.ti.com/lit/ds/symlink/lp5910.pdf?src-supplier=Digi-Key; Manufacturer Part Number: LP5910-1.8DRVR; Supplier Part Number 1: 296-47212-1-ND; Category: Voltage Regulators - Linear
footprint LP5910
pins: 1 OUT (power), 2 NC, 3 NC, 4 EN (in), 5 GND (power), 6 IN (power), 7 GND (power)

## LP590712QDQNRQ1
designator U?
Automotive, 250-mA, low-noise, high-PSRR, ultra-low-dropout voltage regulator with low IQ and enable; Manufacturer: Texas Instruments; Supplier 1: Digi-Key; RoHS: Yes; Stock 1: 2758; Pricing 1: 1=0.64000, 10=0.56000, 25=0.52560, 100=0.42910, 250=0.39856, 500=0.33920, 1000=0.28000 (USD); Supplier Part Number 1: 296-LP590712QDQNRQ1CT-ND; Manufacturer Part Number: LP590712QDQNRQ1; Category: Integrated Circuits (ICs)
footprint LP5907
pins: 1 OUT (power), 2 GND (power), 3 EN (in), 4 IN (power), 5 GND (power)

## LP590725QDQNRQ1
designator U?
LDO Regulator Pos 1.2V to 4.5V 0.25A 4-Pin X2SON EP T/R; Manufacturer: Texas Instruments; Supplier 1: Digi-Key; RoHS: Yes; Stock 1: 2810; Pricing 1: 1=0.64000, 10=0.56000, 25=0.52560, 100=0.42910, 250=0.39856, 500=0.33920, 1000=0.28000 (USD); Manufacturer Part Number: LP590725QDQNRQ1; Supplier Part Number 1: 296-LP590725QDQNRQ1CT-ND; Category: Integrated Circuits (ICs)
footprint LP5907
pins: 1 OUT (power), 2 GND (power), 3 EN (in), 4 IN (power), 5 GND (power)

## LTC4419IDD#PBF
designator U?
IC SOURCE SELECTOR SWITCH 10DFN; Manufacturer: Analog Devices / Linear Technology; Min Supply Voltage: 1.8V; Max Supply Voltage: 18V; Supplier 1: Digi-Key; RoHS: Yes; Stock 1: 2936; Pricing 1: 1=7.57000, 10=6.83700, 25=6.51920, 100=5.66040, 250=5.40600, 500=4.92900, 1000=4.50000 (USD); Case/Package: DFN; Number of Pins: 10; Min Operating Temperature: 0°C; Max Operating Temperature: 70°C; REACH SVHC: No SVHC; RoHS Compliant: Yes; ComponentLink1URL: http://www.farnell.com/datasheets/2124270.pdf?src-supplier=Farnell; ComponentLink1Description: http://www.farnell.com/datasheets/2124270.pdf?src-supplier=Farnell; ComponentLink2URL: http://www.linear.com/docs/54122?src-supplier=Digi-Key; ComponentLink2Description: http://www.linear.com/docs/54122?src-supplier=Digi-Key; ComponentLink3URL: http://www.farnell.com/datasheets/2124270.pdf?src-supplier=Element14; ComponentLink3Description: http://www.farnell.com/datasheets/2124270.pdf?src-supplier=Element14; Category: Power Management ICs; Manufacturer Part Number: LTC4419IDD#PBF; Supplier Part Number 1: LTC4419IDD#PBF-ND
footprint LTC4419IDD#PBF
pins: 1 V1 (power), 2 CMP1 (in), 3 ADJ (in), 4 GND (power), 5 CMPOUT1 (out), 6 CMPOUT2 (out), 7 V2ON (out), 8 OUT (power), 9 CMP2 (in), 10 V2 (power), 11 GND (power)

## LZ1-00R702-0000
designator D?
IR Emitter 940nm 1600mW 1200mA 3.05V 4-Pin CSMD T/R; Manufacturer: LED Engin; Viewing Angle: 90°; Forward Voltage: 3V; Touchscreen: Infrared (IR); Supplier 1: Arrow Electronics; Manufacturer Part Number: LZ1-00R702-0000; RoHS: Yes; Mount: Surface Mount; Case/Package: SMD/SMT; Packaging: Tape and Reel; Wavelength: 940nm; Orientation: Top View; ComponentLink1URL: http://www.ledengin.com/files/products/LZ1/LZ1-00R702.pdf?src-supplier=Digi-Key; ComponentLink1Description: http://www.ledengin.com/files/products/LZ1/LZ1-00R702.pdf?src-supplier=Digi-Key; Supplier Part Number 1: LZ1-00R702-0000
footprint LZ1-00R702-0000 (Footprint not found)
pins: 1 (power), 2 (power), 3 (power), 4 (power), 5 (power)

## MAX366ESA+T
designator U?
Hot Swap Voltage Controllers Signal Line Circuit Protector; Manufacturer: Maxim; Number of Circuits: 3; Clamping Voltage: 40V; Max Power Dissipation: 471mW; Supplier 1: Mouser; RoHS: Yes; Stock 1: 2323; Pricing 1: 1=5.00000, 10=4.40000, 50=4.16000, 100=3.63000, 1000=3.30000, 10000=3.18000 (USD); Case/Package: SOIC; Min Operating Temperature: -40°C; Max Operating Temperature: 85°C; Packaging: Tape and Reel; Package Quantity: 2500; Series: MAX366; Radiation Hardening: No; RoHS Compliant: Yes; ComponentLink1URL: https://datasheet.ciiva.com/26787/max366esa-t-26787912.pdf?src-supplier=IIIC; ComponentLink1Description: https://datasheet.ciiva.com/26787/max366esa-t-26787912.pdf?src-supplier=IIIC; ComponentLink2URL: https://datasheet.ciiva.com/16617/max366-max367-16617322.pdf?src-supplier=Avnet+Europe; ComponentLink2Description: https://datasheet.ciiva.com/16617/max366-max367-16617322.pdf?src-supplier=Avnet+Europe; ComponentLink3URL: https://datasheet.ciiva.com/361/max366-max367-361731.pdf?src-supplier=Digi-Key; ComponentLink3Description: https://datasheet.ciiva.com/361/max366-max367-361731.pdf?src-supplier=Digi-Key; Category: Interface ICs; Manufacturer Part Number: MAX366ESA+T; Supplier Part Number 1: 700-MAX366ESAT
footprint MAX366ESA+T
pins: 1 V+ (power), 2 V- (power), 3 IN1 (in), 4 IN2 (in), 5 IN3 (in), 6 OUT1 (out), 7 OUT2 (out), 8 OUT3 (out)

## MAX9940AXK+T
designator U?
MAXIM INTEGRATED PRODUCTS         MAX9940AXK+T             OVERVOLTAGE PROTECTION CTRL, UMAX-8; Max Supply Voltage: 5.5V; Min Supply Voltage: 2.2V; Nominal Supply Current: 13uA; Clamping Voltage: 28V; Number of Circuits: 1; Max Power Dissipation: 245mW; Supplier 1: RSComponents; Manufacturer: Maxim; Manufacturer Part Number: MAX9940AXK+T; RoHS: Yes; Category: Power Management ICs; Stock 1: 1; Pricing 1: 2500=0.77900 (USD); Number of Pins: 5; Min Operating Temperature: -40°C; Max Operating Temperature: 125°C; Package Quantity: 2500; Packaging: Tape and Reel; Working Voltage: 5.5V; Series: MAX9940; Supply Current: 13uA; Radiation Hardening: No; REACH SVHC: Unknown; RoHS Compliant: Yes; ComponentLink1URL: https://datasheet.ciiva.com/329/max9940-329539.pdf?src-supplier=Digi-Key; ComponentLink1Description: https://datasheet.ciiva.com/329/max9940-329539.pdf?src-supplier=Digi-Key; ComponentLink2URL: https://datasheet.ciiva.com/4875/max9940-110501-4875386.pdf?src-supplier=Mouser; ComponentLink2Description: https://datasheet.ciiva.com/4875/max9940-110501-4875386.pdf?src-supplier=Mouser; ComponentLink3URL: https://datasheet.ciiva.com/25893/max9940-25893924.pdf?src-supplier=Avnet+Europe; ComponentLink3Description: https://datasheet.ciiva.com/25893/max9940-25893924.pdf?src-supplier=Avnet+Europe; ComponentLink4URL: https://datasheet.ciiva.com/26787/max9940axk-t-26787222.pdf?src-supplier=IIIC; ComponentLink4Description: https://datasheet.ciiva.com/26787/max9940axk-t-26787222.pdf?src-supplier=IIIC; ComponentLink5URL: https://datasheet.ciiva.com/329/max9940-329540.pdf?src-supplier=Digi-Key; ComponentLink5Description: https://datasheet.ciiva.com/329/max9940-329540.pdf?src-supplier=Digi-Key; ComponentLink6URL: https://datasheet.ciiva.com/329/max9940-329541.pdf?src-supplier=Digi-Key; ComponentLink6Description: https://datasheet.ciiva.com/329/max9940-329541.pdf?src-supplier=Digi-Key; ComponentLink7URL: https://datasheet.ciiva.com/3011/max9940-3011992.pdf?src-supplier=Avnet; ComponentLink7Description: https://datasheet.ciiva.com/3011/max9940-3011992.pdf?src-supplier=Avnet; Supplier Part Number 1: 1904878
footprint MAX9940AXK+T
pins: 1 VCC (in), 2 GND (in), 3 NC (in), 4 INT (in), 5 EXT (in)